# Altium footprint library YDRA-A18-1575.PcbLib: 1 footprints
Each footprint in its own frame and in the unit in brackets; x right, y up, seen from the top. Pads: shape width x height; smd on the part's side, far side on the other; paste and mask are expansions set on the pad; w line width, h text height; cw(c..) or ccw(c..) is an arc to the next point about the centre after c.
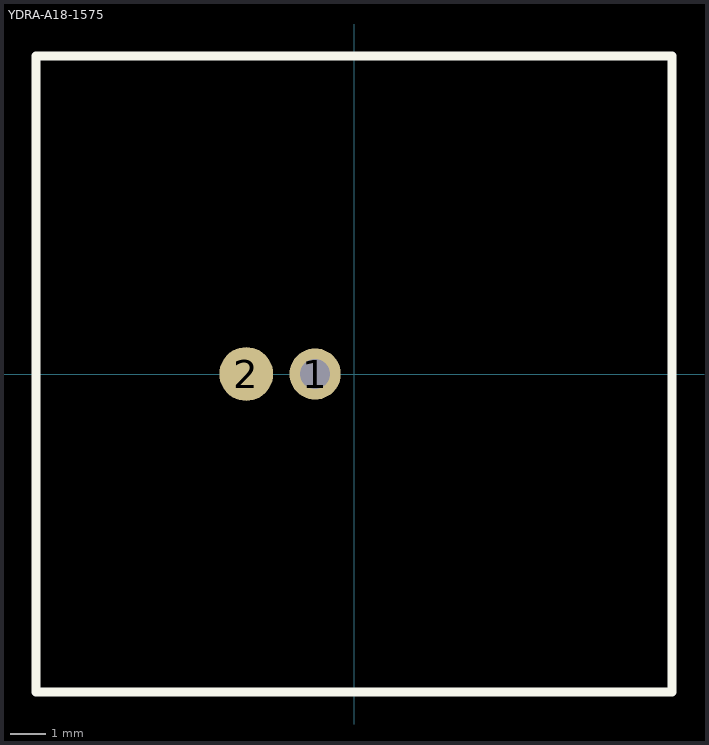
[diagram p0: the footprint, top view; thin cyan lines are the x and y axes]

## YDRA-A18-1575 [mm]
pads (2):
  round 1.45 hole 0.85: 1(-1.1,0)
  round 1.524 smd: 2(-3.048,0)
Top Overlay:
  lines w0.254: -9,-9 9,-9 9,9 -9,9 -9,-9
3D body "YDRA-A18-1575.stp": height 5, standoff -3, extent -9,-9 9,9